# EAGLE library part SN76489 (library sn76489)
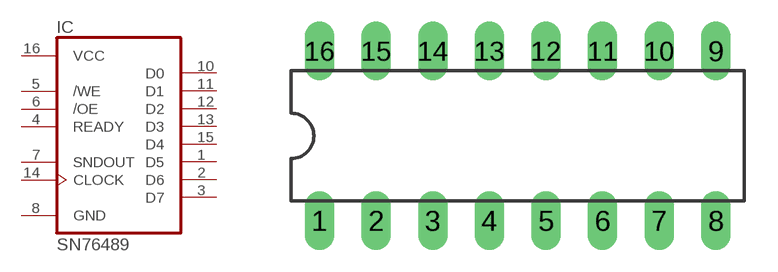
[diagram p0: symbol with the pads of DIL16; footprint DIL16]

Designator prefix IC

## SN76489  [DIL16]
1  D5  in
2  D6  in
3  D7  in
4  READY  oc
5  /WE  in
6  /OE  in
7  SNDOUT  oc
8  GND  sup
10  D0  in
11  D1  in
12  D2  in
13  D3  in
14  CLOCK  in
15  D4  in
16  VCC  sup

## Footprint DIL16 (pad centres in mm)
Dual In Line Package
drill 0.813 long: 1 -8.89,-3.81; 2 -6.35,-3.81; 3 -3.81,-3.81; 4 -1.27,-3.81; 5 1.27,-3.81; 6 3.81,-3.81; 7 6.35,-3.81; 8 8.89,-3.81; 9 8.89,3.81; 10 6.35,3.81; 11 3.81,3.81; 12 1.27,3.81; 13 -1.27,3.81; 14 -3.81,3.81; 15 -6.35,3.81; 16 -8.89,3.81